# Altium footprint library XilinxFPGA.PcbLib: 1 footprints
Each footprint in its own frame and in the unit in brackets; x right, y up, seen from the top. Pads: shape width x height; smd on the part's side, far side on the other; paste and mask are expansions set on the pad; w line width, h text height; cw(c..) or ccw(c..) is an arc to the next point about the centre after c.
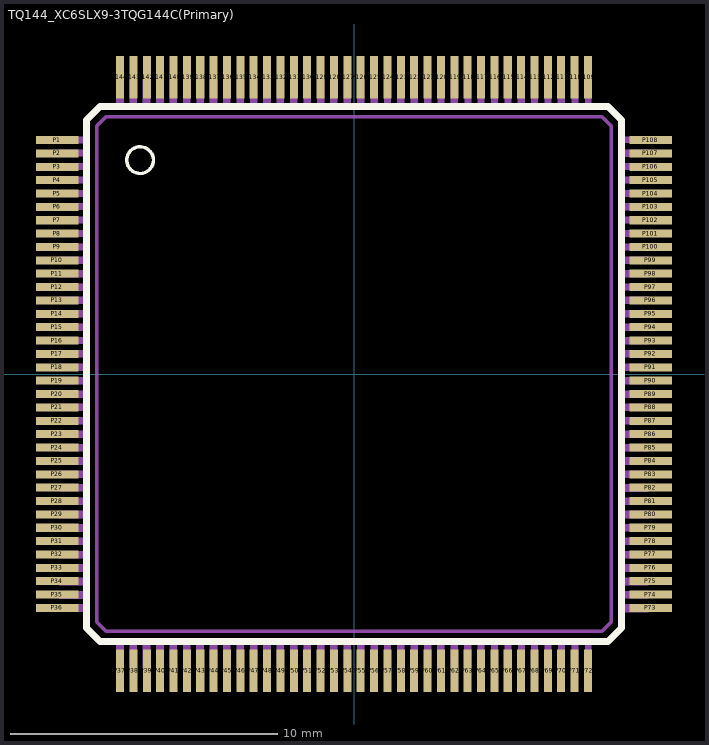
[diagram p0: the footprint, top view; thin cyan lines are the x and y axes]

## TQ144_XC6SLX9-3TQG144C(Primary) [mm]
pads (144):
  rect 1.6x0.3 smd: P1(-11.1,8.75) P2(-11.1,8.25) P3(-11.1,7.75) P4(-11.1,7.25) P5(-11.1,6.75) P6(-11.1,6.25) P7(-11.1,5.75) P8(-11.1,5.25) P9(-11.1,4.75) P10(-11.1,4.25) P11(-11.1,3.75) P12(-11.1,3.25) P13(-11.1,2.75) P14(-11.1,2.25) P15(-11.1,1.75) P16(-11.1,1.25) P17(-11.1,0.75) P18(-11.1,0.25) P19(-11.1,-0.25) P20(-11.1,-0.75) P21(-11.1,-1.25) P22(-11.1,-1.75) P23(-11.1,-2.25) P24(-11.1,-2.75) P25(-11.1,-3.25) P26(-11.1,-3.75) P27(-11.1,-4.25) P28(-11.1,-4.75) P29(-11.1,-5.25) P30(-11.1,-5.75) P31(-11.1,-6.25) P32(-11.1,-6.75) P33(-11.1,-7.25) P34(-11.1,-7.75) P35(-11.1,-8.25) P36(-11.1,-8.75) P73(11.1,-8.75) P74(11.1,-8.25) P75(11.1,-7.75) P76(11.1,-7.25) P77(11.1,-6.75) P78(11.1,-6.25) P79(11.1,-5.75) P80(11.1,-5.25) P81(11.1,-4.75) P82(11.1,-4.25) P83(11.1,-3.75) P84(11.1,-3.25) P85(11.1,-2.75) P86(11.1,-2.25) P87(11.1,-1.75) P88(11.1,-1.25) P89(11.1,-0.75) P90(11.1,-0.25) P91(11.1,0.25) P92(11.1,0.75) P93(11.1,1.25) P94(11.1,1.75) P95(11.1,2.25) P96(11.1,2.75) P97(11.1,3.25) P98(11.1,3.75) P99(11.1,4.25) P100(11.1,4.75) P101(11.1,5.25) P102(11.1,5.75) P103(11.1,6.25) P104(11.1,6.75) P105(11.1,7.25) P106(11.1,7.75) P107(11.1,8.25) P108(11.1,8.75)
  rect 0.3x1.6 smd: P37(-8.75,-11.1) P38(-8.25,-11.1) P39(-7.75,-11.1) P40(-7.25,-11.1) P41(-6.75,-11.1) P42(-6.25,-11.1) P43(-5.75,-11.1) P44(-5.25,-11.1) P45(-4.75,-11.1) P46(-4.25,-11.1) P47(-3.75,-11.1) P48(-3.25,-11.1) P49(-2.75,-11.1) P50(-2.25,-11.1) P51(-1.75,-11.1) P52(-1.25,-11.1) P53(-0.75,-11.1) P54(-0.25,-11.1) P55(0.25,-11.1) P56(0.75,-11.1) P57(1.25,-11.1) P58(1.75,-11.1) P59(2.25,-11.1) P60(2.75,-11.1) P61(3.25,-11.1) P62(3.75,-11.1) P63(4.25,-11.1) P64(4.75,-11.1) P65(5.25,-11.1) P66(5.75,-11.1) P67(6.25,-11.1) P68(6.75,-11.1) P69(7.25,-11.1) P70(7.75,-11.1) P71(8.25,-11.1) P72(8.75,-11.1) P109(8.75,11.1) P110(8.25,11.1) P111(7.75,11.1) P112(7.25,11.1) P113(6.75,11.1) P114(6.25,11.1) P115(5.75,11.1) P116(5.25,11.1) P117(4.75,11.1) P118(4.25,11.1) P119(3.75,11.1) P120(3.25,11.1) P121(2.75,11.1) P122(2.25,11.1) P123(1.75,11.1) P124(1.25,11.1) P125(0.75,11.1) P126(0.25,11.1) P127(-0.25,11.1) P128(-0.75,11.1) P129(-1.25,11.1) P130(-1.75,11.1) P131(-2.25,11.1) P132(-2.75,11.1) P133(-3.25,11.1) P134(-3.75,11.1) P135(-4.25,11.1) P136(-4.75,11.1) P137(-5.25,11.1) P138(-5.75,11.1) P139(-6.25,11.1) P140(-6.75,11.1) P141(-7.25,11.1) P142(-7.75,11.1) P143(-8.25,11.1) P144(-8.75,11.1)
Top Overlay:
  circle w0.127: c-8,8 r0.5
  lines w0.254: -10,-9.5 -9.5,-10 9.5,-10 10,-9.5 10,9.5 9.5,10 -9.5,10 -10,9.5 -10,-9.5
Mechanical 1:
  drawing of 152 lines, arcs and shapes, not listed